# EAGLE library part AS-ITM-00411 (library tinycircuits)
IC ENERGY HARV CTRLR BATT 20VQFN
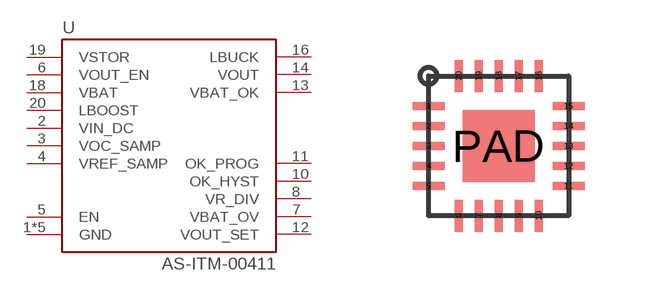
[diagram p169: symbol with the pads of QFN-20_3.5X3.5; footprint QFN-20_3.5X3.5]

Designator prefix U

## AS-ITM-00411 (PARTNO: AS-ITM-00411; VALUE: BQ25570)  [QFN-20_3.5X3.5]
1  GND
2  VIN_DC
3  VOC_SAMP
4  VREF_SAMP
5  EN
6  VOUT_EN
7  VBAT_OV
8  VR_DIV
9  GND
10  OK_HYST
11  OK_PROG
12  VOUT_SET
13  VBAT_OK
14  VOUT
15  GND
16  LBUCK
17  GND
18  VBAT
19  VSTOR
20  LBOOST
PAD  GND

## Footprint QFN-20_3.5X3.5 (pad centres in mm)
smd 0.8 x 0.2: 1 -1.75,1; 2 -1.75,0.5; 3 -1.75,0; 4 -1.75,-0.5; 5 -1.75,-1; 11 1.75,-1; 12 1.75,-0.5; 13 1.75,0; 14 1.75,0.5; 15 1.75,1
smd 0.2 x 0.8: 6 -1,-1.75; 7 -0.5,-1.75; 8 0,-1.75; 9 0.5,-1.75; 10 1,-1.75; 16 1,1.75; 17 0.5,1.75; 18 0,1.75; 19 -0.5,1.75; 20 -1,1.75
smd 1.8 x 1.8: PAD 0,0